# Altium schematic symbol library Altium First PCB.SchLib: 1 symbol
Pins are listed as number, name and electrical type; pins without a type are passive.

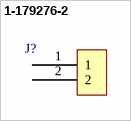
[diagram p0: symbol 1-179276-2]

## 1-179276-2
designator J?, comment CONN HEADER R/A 2POS 5.08MM  (value not drawn)
Connector Header Through Hole, Right Angle 2 position 0.200" (5.08mm); Manufacturer: TE Connectivity AMP Connectors; Manufacturer Part Number: 1-179276-2; Supplier 1: RSComponents; ComponentLink1Description: Product URL; ComponentLink1URL: https://www.te.com/usa-en/product-1-179276-2.html?te_bu=Cor&te_type=srch&te_campaign=oct_usa_cor-oct-usa-srch-selectmktg-fy21-octopart-feed_sma-1735_8&elqCampaignId=95671; Supplier Part Number 1: 7189696
pins: 1, 2